# EAGLE library part ARTIK-530 (library IoTMakers)
Artik 530 Ble Wifi Zigbee Module
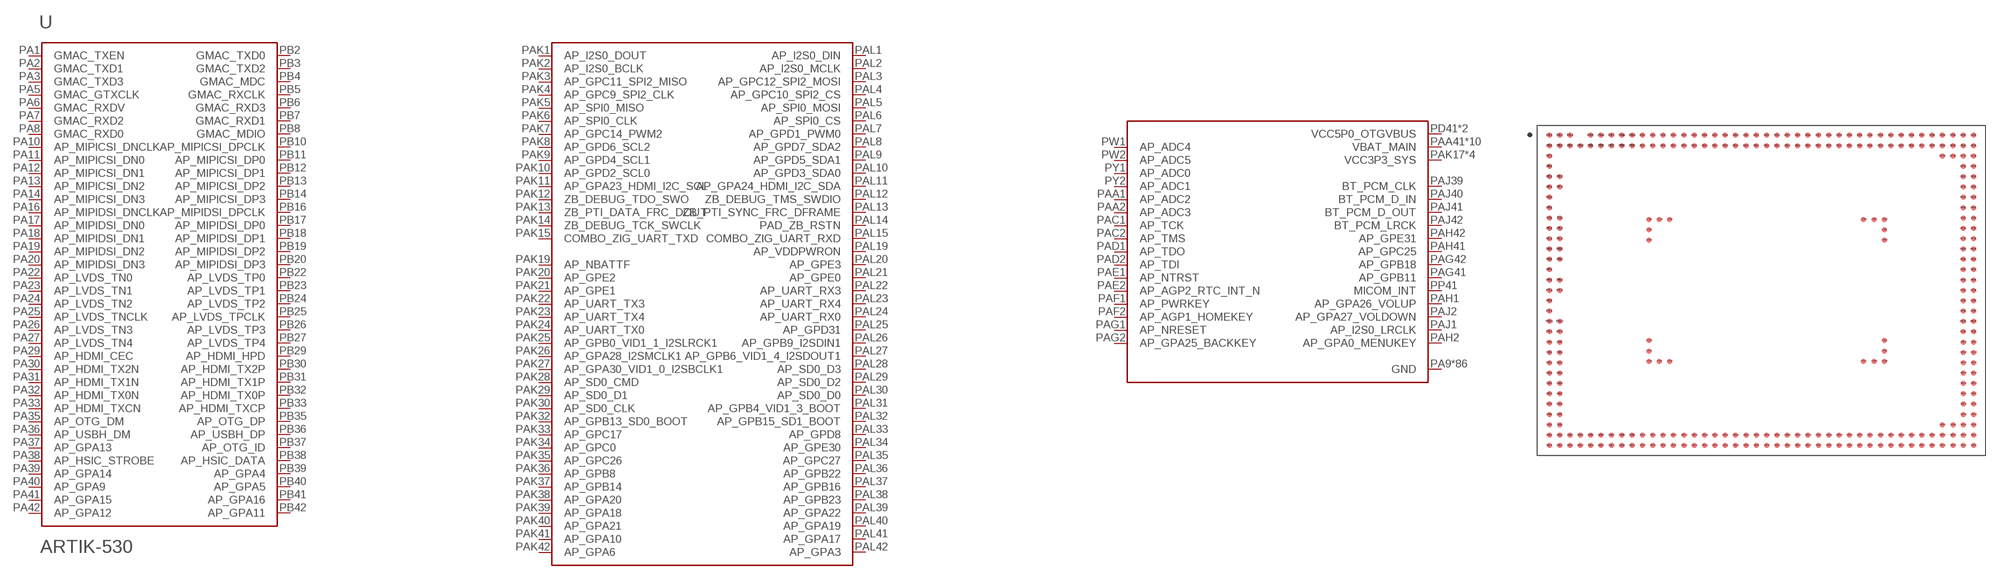
[diagram p9: symbol with the pads of BGA312C113P42X31_4900X3600X340; footprint BGA312C113P42X31_4900X3600X340]

Designator prefix U

## ARTIK-530 (DESCRIPTION: Artik 530 Ble Wifi Zigbee Module; DIGI-KEY_PART_NUMBER: 1683-1002-ND; DIGI-KEY_PURCHASE_URL: https://www.digikey.com/product-detail/en/samsung-semiconductor-inc/SIP-005AFS301/1683-1002-ND/6194567?WT.z_cid=ref_snapeda&utm_source=snapeda&utm_medium=aggregator&utm_campaign=buynow; MF: Samsung; MP: SIP-005AFS301; PACKAGE: Module Samsung)  [BGA312C113P42X31_4900X3600X340]
PA1  GMAC_TXEN
PA2  GMAC_TXD1
PA3  GMAC_TXD3
PA5  GMAC_GTXCLK
PA6  GMAC_RXDV
PA7  GMAC_RXD2
PA8  GMAC_RXD0
PA9  GND  pwr
PA10  AP_MIPICSI_DNCLK
PA11  AP_MIPICSI_DN0
PA12  AP_MIPICSI_DN1
PA13  AP_MIPICSI_DN2
PA14  AP_MIPICSI_DN3
PA15  GND  pwr
PA16  AP_MIPIDSI_DNCLK
PA17  AP_MIPIDSI_DN0
PA18  AP_MIPIDSI_DN1
PA19  AP_MIPIDSI_DN2
PA20  AP_MIPIDSI_DN3
PA21  GND  pwr
PA22  AP_LVDS_TN0
PA23  AP_LVDS_TN1
PA24  AP_LVDS_TN2
PA25  AP_LVDS_TNCLK
PA26  AP_LVDS_TN3
PA27  AP_LVDS_TN4
PA28  GND  pwr
PA29  AP_HDMI_CEC
PA30  AP_HDMI_TX2N
PA31  AP_HDMI_TX1N
PA32  AP_HDMI_TX0N
PA33  AP_HDMI_TXCN
PA34  GND  pwr
PA35  AP_OTG_DM
PA36  AP_USBH_DM
PA37  AP_GPA13
PA38  AP_HSIC_STROBE
PA39  AP_GPA14
PA40  AP_GPA9
PA41  AP_GPA15
PA42  AP_GPA12
PAA1  AP_ADC2
PAA2  AP_ADC3
PAA41  VBAT_MAIN  pwr
PAA42  VBAT_MAIN  pwr
PAB1  GND  pwr
PAB2  GND  pwr
PAB41  VBAT_MAIN  pwr
PAB42  VBAT_MAIN  pwr
PAC1  AP_TCK
PAC2  AP_TMS
PAC41  GND  pwr
PAC42  GND  pwr
PAD1  AP_TDO
PAD2  AP_TDI
PAE1  AP_NTRST
PAE2  AP_AGP2_RTC_INT_N
PAE41  GND  pwr
PAF1  AP_PWRKEY
PAF2  AP_AGP1_HOMEKEY
PAF41  GND  pwr
PAF42  GND  pwr
PAG1  AP_NRESET  in
PAG2  AP_GPA25_BACKKEY
PAG41  AP_GPB11
PAG42  AP_GPB18
PAH1  AP_GPA26_VOLUP
PAH2  AP_GPA0_MENUKEY
PAH41  AP_GPC25
PAH42  AP_GPE31
PAJ1  AP_I2S0_LRCLK
PAJ2  AP_GPA27_VOLDOWN
PAJ39  BT_PCM_CLK
PAJ40  BT_PCM_D_IN
PAJ41  BT_PCM_D_OUT
PAJ42  BT_PCM_LRCK
PAK1  AP_I2S0_DOUT
PAK2  AP_I2S0_BCLK
PAK3  AP_GPC11_SPI2_MISO
PAK4  AP_GPC9_SPI2_CLK
PAK5  AP_SPI0_MISO
PAK6  AP_SPI0_CLK
PAK7  AP_GPC14_PWM2
PAK8  AP_GPD6_SCL2
PAK9  AP_GPD4_SCL1
PAK10  AP_GPD2_SCL0
PAK11  AP_GPA23_HDMI_I2C_SCL
PAK12  ZB_DEBUG_TDO_SWO
PAK13  ZB_PTI_DATA_FRC_DOUT
PAK14  ZB_DEBUG_TCK_SWCLK
PAK15  COMBO_ZIG_UART_TXD
PAK16  GND  pwr
PAK17  VCC3P3_SYS  pwr
PAK18  VCC3P3_SYS  pwr
PAK19  AP_NBATTF
PAK20  AP_GPE2
PAK21  AP_GPE1
PAK22  AP_UART_TX3
PAK23  AP_UART_TX4
PAK24  AP_UART_TX0
PAK25  AP_GPB0_VID1_1_I2SLRCK1
PAK26  AP_GPA28_I2SMCLK1
PAK27  AP_GPA30_VID1_0_I2SBCLK1
PAK28  AP_SD0_CMD
PAK29  AP_SD0_D1
PAK30  AP_SD0_CLK
PAK32  AP_GPB13_SD0_BOOT
PAK33  AP_GPC17
PAK34  AP_GPC0
PAK35  AP_GPC26
PAK36  AP_GPB8
PAK37  AP_GPB14
PAK38  AP_GPA20
PAK39  AP_GPA18
PAK40  AP_GPA21
PAK41  AP_GPA10
PAK42  AP_GPA6
PAL1  AP_I2S0_DIN
PAL2  AP_I2S0_MCLK
PAL3  AP_GPC12_SPI2_MOSI
PAL4  AP_GPC10_SPI2_CS
PAL5  AP_SPI0_MOSI
PAL6  AP_SPI0_CS
PAL7  AP_GPD1_PWM0
PAL8  AP_GPD7_SDA2
PAL9  AP_GPD5_SDA1
PAL10  AP_GPD3_SDA0
PAL11  AP_GPA24_HDMI_I2C_SDA
PAL12  ZB_DEBUG_TMS_SWDIO
PAL13  ZB_PTI_SYNC_FRC_DFRAME
PAL14  PAD_ZB_RSTN
PAL15  COMBO_ZIG_UART_RXD
PAL16  GND  pwr
PAL17  VCC3P3_SYS  pwr
PAL18  VCC3P3_SYS  pwr
PAL19  AP_VDDPWRON  out
PAL20  AP_GPE3
PAL21  AP_GPE0
PAL22  AP_UART_RX3
PAL23  AP_UART_RX4
PAL24  AP_UART_RX0
PAL25  AP_GPD31
PAL26  AP_GPB9_I2SDIN1
PAL27  AP_GPB6_VID1_4_I2SDOUT1
PAL28  AP_SD0_D3
PAL29  AP_SD0_D2
PAL30  AP_SD0_D0
PAL31  AP_GPB4_VID1_3_BOOT
PAL32  AP_GPB15_SD1_BOOT
PAL33  AP_GPD8
PAL34  AP_GPE30
PAL35  AP_GPC27
PAL36  AP_GPB22
PAL37  AP_GPB16
PAL38  AP_GPB23
PAL39  AP_GPA22
PAL40  AP_GPA19
PAL41  AP_GPA17
PAL42  AP_GPA3
PB1  GND  pwr
PB2  GMAC_TXD0
PB3  GMAC_TXD2
PB4  GMAC_MDC
PB5  GMAC_RXCLK
PB6  GMAC_RXD3
PB7  GMAC_RXD1
PB8  GMAC_MDIO
PB9  GND  pwr
PB10  AP_MIPICSI_DPCLK
PB11  AP_MIPICSI_DP0
PB12  AP_MIPICSI_DP1
PB13  AP_MIPICSI_DP2
PB14  AP_MIPICSI_DP3
PB15  GND  pwr
PB16  AP_MIPIDSI_DPCLK
PB17  AP_MIPIDSI_DP0
PB18  AP_MIPIDSI_DP1
PB19  AP_MIPIDSI_DP2
PB20  AP_MIPIDSI_DP3
PB21  GND  pwr
PB22  AP_LVDS_TP0
PB23  AP_LVDS_TP1
PB24  AP_LVDS_TP2
PB25  AP_LVDS_TPCLK
PB26  AP_LVDS_TP3
PB27  AP_LVDS_TP4
PB28  GND  pwr
PB29  AP_HDMI_HPD
PB30  AP_HDMI_TX2P
PB31  AP_HDMI_TX1P
PB32  AP_HDMI_TX0P
PB33  AP_HDMI_TXCP
PB34  GND  pwr
PB35  AP_OTG_DP
PB36  AP_USBH_DP
PB37  AP_OTG_ID
PB38  AP_HSIC_DATA
PB39  AP_GPA4
PB40  AP_GPA5
PB41  AP_GPA16
PB42  AP_GPA11
PC1  GND  pwr
PC39  GND  pwr
PC40  GND  pwr
PC41  GND  pwr
PC42  GND  pwr
PD1  GND  pwr
PD41  VCC5P0_OTGVBUS  pwr
PD42  VCC5P0_OTGVBUS  pwr
PE1  GND  pwr
PE2  GND  pwr
PF1  GND  pwr
PF2  GND  pwr
PF42  GND  pwr
PG1  GND  pwr
PG41  GND  pwr
PG42  GND  pwr
PH1  GND  pwr
PJ1  GND  pwr
PJ2  GND  pwr
PJ42  GND  pwr
PK1  GND  pwr
PK2  GND  pwr
PK41  GND  pwr
PK42  GND  pwr
PL1  GND  pwr
PL2  GND  pwr
PL41  GND  pwr
PL42  GND  pwr
PM1  GND  pwr
PM2  GND  pwr
PM41  GND  pwr
PM42  GND  pwr
PN1  GND  pwr
PN2  GND  pwr
PN41  GND  pwr
PN42  GND  pwr
PP1  GND  pwr
PP41  MICOM_INT
PP42  GND  pwr
PR1  GND  pwr
PR2  GND  pwr
PT1  GND  pwr
PT2  GND  pwr
PT41  GND  pwr
PT42  GND  pwr
PU1  GND  pwr
PU41  GND  pwr
PU42  GND  pwr
PV1  GND  pwr
PV41  VBAT_MAIN  pwr
PV42  VBAT_MAIN  pwr
PW1  AP_ADC4
PW2  AP_ADC5
PW41  VBAT_MAIN  pwr
PW42  VBAT_MAIN  pwr
PY1  AP_ADC0
PY2  AP_ADC1
PY41  VBAT_MAIN  pwr
PY42  VBAT_MAIN  pwr
TP282  GND  pwr
TP283  GND  pwr
TP284  GND  pwr
TP285  GND  pwr
TP286  GND  pwr
TP287  GND  pwr
TP288  GND  pwr
TP289  GND  pwr
TP290  GND  pwr
TP291  GND  pwr
TP292  GND  pwr
TP293  GND  pwr
TP294  GND  pwr
TP295  GND  pwr
TP296  GND  pwr
TP297  GND  pwr
TP298  GND  pwr
TP299  GND  pwr
TP300  GND  pwr
TP301  GND  pwr

## Footprint BGA312C113P42X31_4900X3600X340 (pad centres in mm)
smd 0.54 x 0.54: PA1 -23.165,16.95; PA2 -22.035,16.95; PA3 -20.905,16.95; PA5 -18.645,16.95; PA6 -17.515,16.95; PA7 -16.385,16.95; PA8 -15.255,16.95; PA9 -14.125,16.95; PA10 -12.995,16.95; PA11 -11.865,16.95; PA12 -10.735,16.95; PA13 -9.605,16.95; PA14 -8.475,16.95; PA15 -7.345,16.95; PA16 -6.215,16.95; PA17 -5.085,16.95; PA18 -3.955,16.95; PA19 -2.825,16.95; PA20 -1.695,16.95; PA21 -0.565,16.95; PA22 0.565,16.95; PA23 1.695,16.95; PA24 2.825,16.95; PA25 3.955,16.95; PA26 5.085,16.95; PA27 6.215,16.95; PA28 7.345,16.95; PA29 8.475,16.95; PA30 9.605,16.95; PA31 10.735,16.95; PA32 11.865,16.95; PA33 12.995,16.95; PA34 14.125,16.95; PA35 15.255,16.95; PA36 16.385,16.95; PA37 17.515,16.95; PA38 18.645,16.95; PA39 19.775,16.95; PA40 20.905,16.95; PA41 22.035,16.95; PA42 23.165,16.95; PAA1 -23.165,-5.65; PAA2 -22.035,-5.65; PAA41 22.035,-5.65; PAA42 23.165,-5.65; PAB1 -23.165,-6.78; PAB2 -22.035,-6.78; PAB41 22.035,-6.78; PAB42 23.165,-6.78; PAC1 -23.165,-7.91; PAC2 -22.035,-7.91; PAC41 22.035,-7.91; PAC42 23.165,-7.91; PAD1 -23.165,-9.04; PAD2 -22.035,-9.04; PAD41 22.035,-9.04; PAD42 23.165,-9.04; PAE1 -23.165,-10.17; PAE2 -22.035,-10.17; PAE41 22.035,-10.17; PAE42 23.165,-10.17; PAF1 -23.165,-11.3; PAF2 -22.035,-11.3; PAF41 22.035,-11.3; PAF42 23.165,-11.3; PAG1 -23.165,-12.43; PAG2 -22.035,-12.43; PAG41 22.035,-12.43; PAG42 23.165,-12.43; PAH1 -23.165,-13.56; PAH2 -22.035,-13.56; PAH41 22.035,-13.56; PAH42 23.165,-13.56; PAJ1 -23.165,-14.69; PAJ2 -22.035,-14.69; PAJ39 19.775,-14.69; PAJ40 20.905,-14.69; PAJ41 22.035,-14.69; PAJ42 23.165,-14.69; PAK1 -23.165,-15.82; PAK2 -22.035,-15.82; PAK3 -20.905,-15.82; PAK4 -19.775,-15.82; PAK5 -18.645,-15.82; PAK6 -17.515,-15.82; PAK7 -16.385,-15.82; PAK8 -15.255,-15.82; PAK9 -14.125,-15.82; PAK10 -12.995,-15.82; PAK11 -11.865,-15.82; PAK12 -10.735,-15.82; PAK13 -9.605,-15.82; PAK14 -8.475,-15.82; PAK15 -7.345,-15.82; PAK16 -6.215,-15.82; PAK17 -5.085,-15.82; PAK18 -3.955,-15.82; PAK19 -2.825,-15.82; PAK20 -1.695,-15.82; PAK21 -0.565,-15.82; PAK22 0.565,-15.82; PAK23 1.695,-15.82; PAK24 2.825,-15.82; PAK25 3.955,-15.82; PAK26 5.085,-15.82; PAK27 6.215,-15.82; PAK28 7.345,-15.82; PAK29 8.475,-15.82; PAK30 9.605,-15.82; PAK31 10.735,-15.82; PAK32 11.865,-15.82; PAK33 12.995,-15.82; PAK34 14.125,-15.82; PAK35 15.255,-15.82; PAK36 16.385,-15.82; PAK37 17.515,-15.82; PAK38 18.645,-15.82; PAK39 19.775,-15.82; PAK40 20.905,-15.82; PAK41 22.035,-15.82; PAK42 23.165,-15.82; PAL1 -23.165,-16.95; PAL2 -22.035,-16.95; PAL3 -20.905,-16.95; PAL4 -19.775,-16.95; PAL5 -18.645,-16.95; PAL6 -17.515,-16.95; PAL7 -16.385,-16.95; PAL8 -15.255,-16.95; PAL9 -14.125,-16.95; PAL10 -12.995,-16.95; PAL11 -11.865,-16.95; PAL12 -10.735,-16.95; PAL13 -9.605,-16.95; PAL14 -8.475,-16.95; PAL15 -7.345,-16.95; PAL16 -6.215,-16.95; PAL17 -5.085,-16.95; PAL18 -3.955,-16.95; PAL19 -2.825,-16.95; PAL20 -1.695,-16.95; PAL21 -0.565,-16.95; PAL22 0.565,-16.95; PAL23 1.695,-16.95; PAL24 2.825,-16.95; PAL25 3.955,-16.95; PAL26 5.085,-16.95; PAL27 6.215,-16.95; PAL28 7.345,-16.95; PAL29 8.475,-16.95; PAL30 9.605,-16.95; PAL31 10.735,-16.95; PAL32 11.865,-16.95; PAL33 12.995,-16.95; PAL34 14.125,-16.95; PAL35 15.255,-16.95; PAL36 16.385,-16.95; PAL37 17.515,-16.95; PAL38 18.645,-16.95; PAL39 19.775,-16.95; PAL40 20.905,-16.95; PAL41 22.035,-16.95; PAL42 23.165,-16.95; PB1 -23.165,15.82; PB2 -22.035,15.82; PB3 -20.905,15.82; PB4 -19.775,15.82; PB5 -18.645,15.82; PB6 -17.515,15.82; PB7 -16.385,15.82; PB8 -15.255,15.82; PB9 -14.125,15.82; PB10 -12.995,15.82; PB11 -11.865,15.82; PB12 -10.735,15.82; PB13 -9.605,15.82; PB14 -8.475,15.82; PB15 -7.345,15.82; PB16 -6.215,15.82; PB17 -5.085,15.82; PB18 -3.955,15.82; PB19 -2.825,15.82; PB20 -1.695,15.82; PB21 -0.565,15.82; PB22 0.565,15.82; PB23 1.695,15.82; PB24 2.825,15.82; PB25 3.955,15.82; PB26 5.085,15.82; PB27 6.215,15.82; PB28 7.345,15.82; PB29 8.475,15.82; PB30 9.605,15.82; PB31 10.735,15.82; PB32 11.865,15.82; PB33 12.995,15.82; PB34 14.125,15.82; PB35 15.255,15.82; PB36 16.385,15.82; PB37 17.515,15.82; PB38 18.645,15.82; PB39 19.775,15.82; PB40 20.905,15.82; PB41 22.035,15.82; PB42 23.165,15.82; PC1 -23.165,14.69; PC39 19.775,14.69; PC40 20.905,14.69; PC41 22.035,14.69; PC42 23.165,14.69; PD1 -23.165,13.56; PD41 22.035,13.56; PD42 23.165,13.56; PE1 -23.165,12.43; PE2 -22.035,12.43; PE41 22.035,12.43; PE42 23.165,12.43; PF1 -23.165,11.3; PF2 -22.035,11.3; PF41 22.035,11.3; PF42 23.165,11.3; PG1 -23.165,10.17; PG41 22.035,10.17; PG42 23.165,10.17; PH1 -23.165,9.04; PH41 22.035,9.04; PH42 23.165,9.04; PJ1 -23.165,7.91; PJ2 -22.035,7.91; PJ41 22.035,7.91; PJ42 23.165,7.91; PK1 -23.165,6.78; PK2 -22.035,6.78; PK41 22.035,6.78; PK42 23.165,6.78; PL1 -23.165,5.65; PL2 -22.035,5.65; PL41 22.035,5.65; PL42 23.165,5.65; PM1 -23.165,4.52; PM2 -22.035,4.52; PM41 22.035,4.52; PM42 23.165,4.52; PN1 -23.165,3.39; PN2 -22.035,3.39; PN41 22.035,3.39; PN42 23.165,3.39; PP1 -23.165,2.26; PP41 22.035,2.26; PP42 23.165,2.26; PR1 -23.165,1.13; PR2 -22.035,1.13; PR41 22.035,1.13; PR42 23.165,1.13; PT1 -23.165,0; PT2 -22.035,0; PT41 22.035,0; PT42 23.165,0; PU1 -23.165,-1.13; PU41 22.035,-1.13; PU42 23.165,-1.13; PV1 -23.165,-2.26; PV41 22.035,-2.26; PV42 23.165,-2.26; PW1 -23.165,-3.39; PW2 -22.035,-3.39; PW41 22.035,-3.39; PW42 23.165,-3.39; PY1 -23.165,-4.52; PY2 -22.035,-4.52; PY41 22.035,-4.52; PY42 23.165,-4.52; TP282 13.415,6.62; TP283 12.285,7.75; TP284 13.415,7.75; TP285 13.415,5.49; TP286 11.155,7.75; TP287 13.415,-6.62; TP288 -12.285,7.75; TP289 12.285,-7.75; TP290 11.155,-7.75; TP291 -10.025,-7.75; TP292 -12.285,6.62; TP293 -10.025,7.75; TP294 -12.285,-5.49; TP295 -11.155,7.75; TP296 -12.285,-7.75; TP297 -12.285,-6.62; TP298 -11.155,-7.75; TP299 13.415,-7.75; TP300 -12.285,5.49; TP301 13.415,-5.49